# EAGLE library part UL1111 (library ul1111)
Uklad scalony UL1111 obudowa DIL14, prod. CEMI. Zawiera 5 tranzystorow, w tym 2 tranzystory polaczone w ukladzie wzmacniacza roznicowego. Przeznaczenie: do zastosowan ogolnych. (inne oznaczenie: UL111N, ULA6111N)
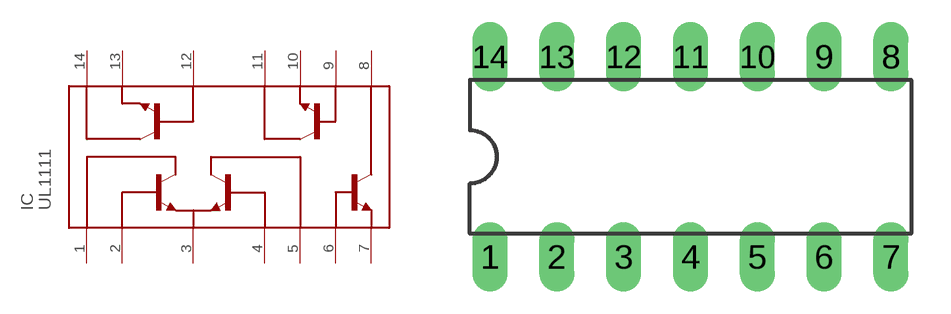
[diagram p0: symbol with the pads of DIL14; footprint DIL14]

Designator prefix IC

## UL1111  [DIL14]
1  P$1
2  P$2
3  P$3
4  P$4
5  P$5
6  P$6
7  P$7
8  P$8
9  P$9
10  P$10
11  P$11
12  P$12
13  P$13
14  P$14

## Footprint DIL14 (pad centres in mm)
drill 0.813 long: 1 -7.62,-3.81; 2 -5.08,-3.81; 3 -2.54,-3.81; 4 0,-3.81; 5 2.54,-3.81; 6 5.08,-3.81; 7 7.62,-3.81; 8 7.62,3.81; 9 5.08,3.81; 10 2.54,3.81; 11 0,3.81; 12 -2.54,3.81; 13 -5.08,3.81; 14 -7.62,3.81